# Altium footprint library PI3USB4000DZUAEX.PcbLib: 1 footprints
Each footprint in its own frame and in the unit in brackets; x right, y up, seen from the top. Pads: shape width x height; smd on the part's side, far side on the other; paste and mask are expansions set on the pad; w line width, h text height; cw(c..) or ccw(c..) is an arc to the next point about the centre after c.
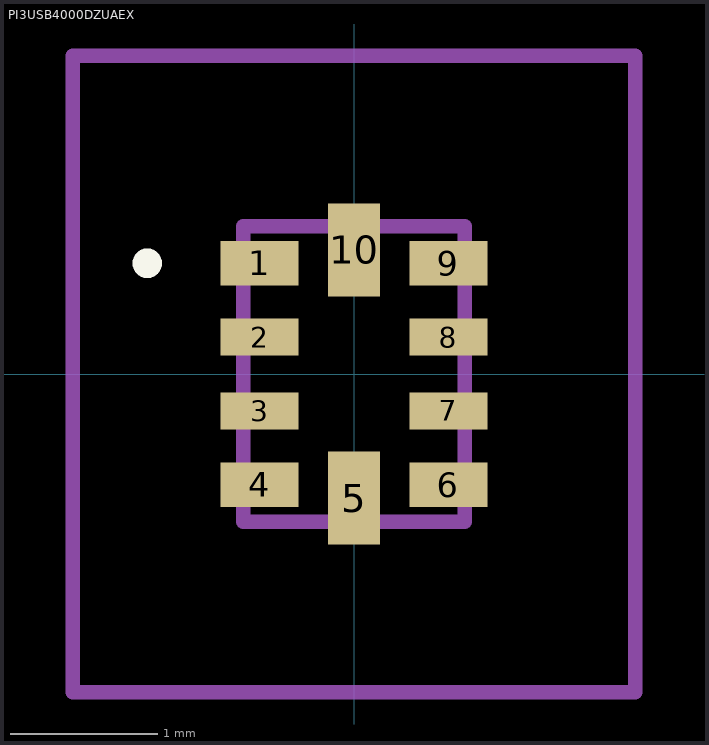
[diagram p0: the footprint, top view; thin cyan lines are the x and y axes]

## PI3USB4000DZUAEX [mm]
pads (10):
  rect 0.53x0.3 smd: 1(-0.64,0.75) 4(-0.64,-0.75) 6(0.64,-0.75) 9(0.64,0.75)
  rect 0.53x0.25 smd: 2(-0.64,0.25) 3(-0.64,-0.25) 7(0.64,-0.25) 8(0.64,0.25)
  rect 0.35x0.63 smd: 5(0,-0.84) 10(0,0.84)
Top Overlay:
  lines w0.1: -1.45,0.75 cw(c-1.4,0.75) -1.35,0.75 ; -1.45,0.75 -1.45,0.75 ; -1.45,0.75 ccw(c-1.4,0.75) -1.35,0.75 ; -1.35,0.75 -1.35,0.75
Mechanical 15:
  lines w0.1: -0.75,-1 0.75,-1 0.75,1 -0.75,1 -0.75,-1
Mechanical 20:
  lines w0.1: -1.905,-2.155 1.905,-2.155 1.905,2.155 -1.905,2.155 -1.905,-2.155